# Altium schematic symbol library Watertron_BFC_2.Schlib: 1 symbol
Pins are listed as number, name and electrical type; pins without a type are passive.

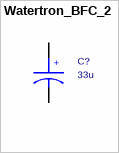
[diagram p0: symbol Watertron_BFC_2]

## Watertron_BFC_2
designator C?, comment 33u
pins: 1, 2
text: +